# EAGLE library part M16-SCREW-3.5MM (library awickert)
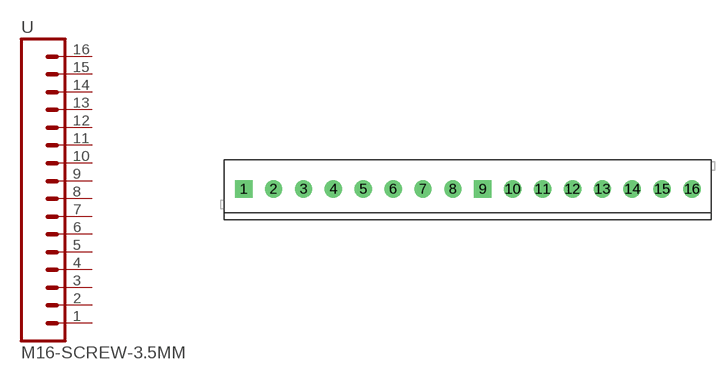
[diagram p3: symbol with the pads of M16-SCREW-3.5MM; footprint M16-SCREW-3.5MM]

Designator prefix -

## M16-SCREW-3.5MM  [M16-SCREW-3.5MM]
1  1  pas
2  2  pas
3  3  pas
4  4  pas
5  5  pas
6  6  pas
7  7  pas
8  8  pas
9  9  pas
10  10  pas
11  11  pas
12  12  pas
13  13  pas
14  14  pas
15  15  pas
16  16  pas

## Footprint M16-SCREW-3.5MM (pad centres in mm)
drill 1.2 pad 2.032 square: 1 0,0; 9 28,0
drill 1.2 pad 2.032: 2 3.5,0.007; 3 7,0.007; 4 10.5,0.007; 5 14,0.007; 6 17.5,0.007; 7 21,0.007; 8 24.5,0.007; 10 31.5,0; 11 35,0; 12 38.5,0; 13 42,0; 14 45.5,0; 15 49,0; 16 52.5,0